# Altium footprint library semicon.PCBLIB: 115 footprints (part 8 of 8)
Each footprint in its own frame and in the unit in brackets; x right, y up, seen from the top. Pads: shape width x height; smd on the part's side, far side on the other; paste and mask are expansions set on the pad; w line width, h text height; cw(c..) or ccw(c..) is an arc to the next point about the centre after c.
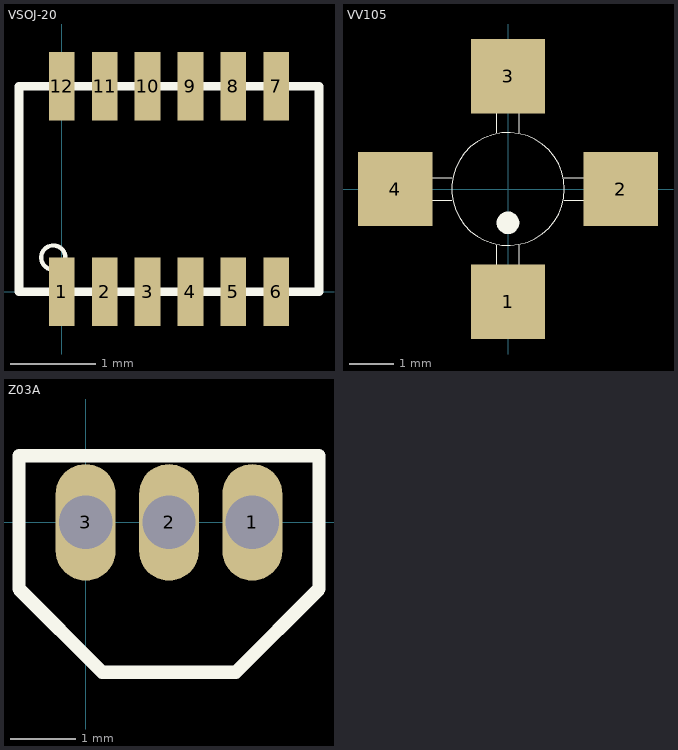
[diagram p7: the footprints below, top view; thin cyan lines are the x and y axes]

## VSOJ-20 [mm]
pads (12):
  rect 0.3x0.8 smd: 1(0,0) 2(0.5,0) 4(1.5,0) 5(2,0) 6(2.5,0) 7(2.5,2.4) 8(2,2.4) 9(1.5,2.4) 10(1,2.4) 11(0.5,2.4) 12(0,2.4)
  rect 0.3x0.8 smd mask+0.102: 3(1,0)
Top Overlay:
  circle w0.051: c-0.1,0.4 r0.141
  lines w0.1: -0.5,0 3,0 3,2.4 -0.5,2.4 -0.5,0

## VV105 [mil]
pads (4):
  rect 66x66 smd: 1(0,-100) 2(100,0) 3(0,100) 4(-100,0)
Top Overlay:
  circle w1: c0,0 r50
  circle w10: c0,-30 r5
  lines w1: -50,-10 -120,-10 -120,10 -50,10 ; -10,-50 -10,-110 10,-130 10,-50 ; -10,50 -10,120 10,120 10,50 ; 50,-10 120,-10 120,10 50,10

## Z03A [mil]
pads (3):
  oval 36x70 hole 32: 1(100,0) 2(50,0) 3(0,0)
Top Overlay:
  lines w8: -40,-40 10,-90 90,-90 140,-40 140,40 -40,40 -40,-40